# EAGLE library part MCP16251-SOT-23 (library battery)
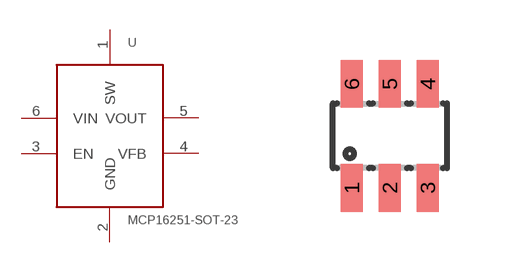
[diagram p0: symbol with the pads of SOT-23; footprint SOT-23]

Designator prefix -

## MCP16251-SOT-23  [SOT-23]
1  SW
2  GND
3  EN
4  VFB
5  VOUT
6  VIN

## Footprint SOT-23 (pad centres in mm)
smd 0.55 x 1.2: 1 -0.95,-1.3; 2 0,-1.3; 3 0.95,-1.3; 4 0.95,1.3; 5 0,1.3; 6 -0.95,1.3